# Altium integrated library TI Data Converters Analog to Digital Converter.IntLib: 2198 symbols (part 14 of 164)
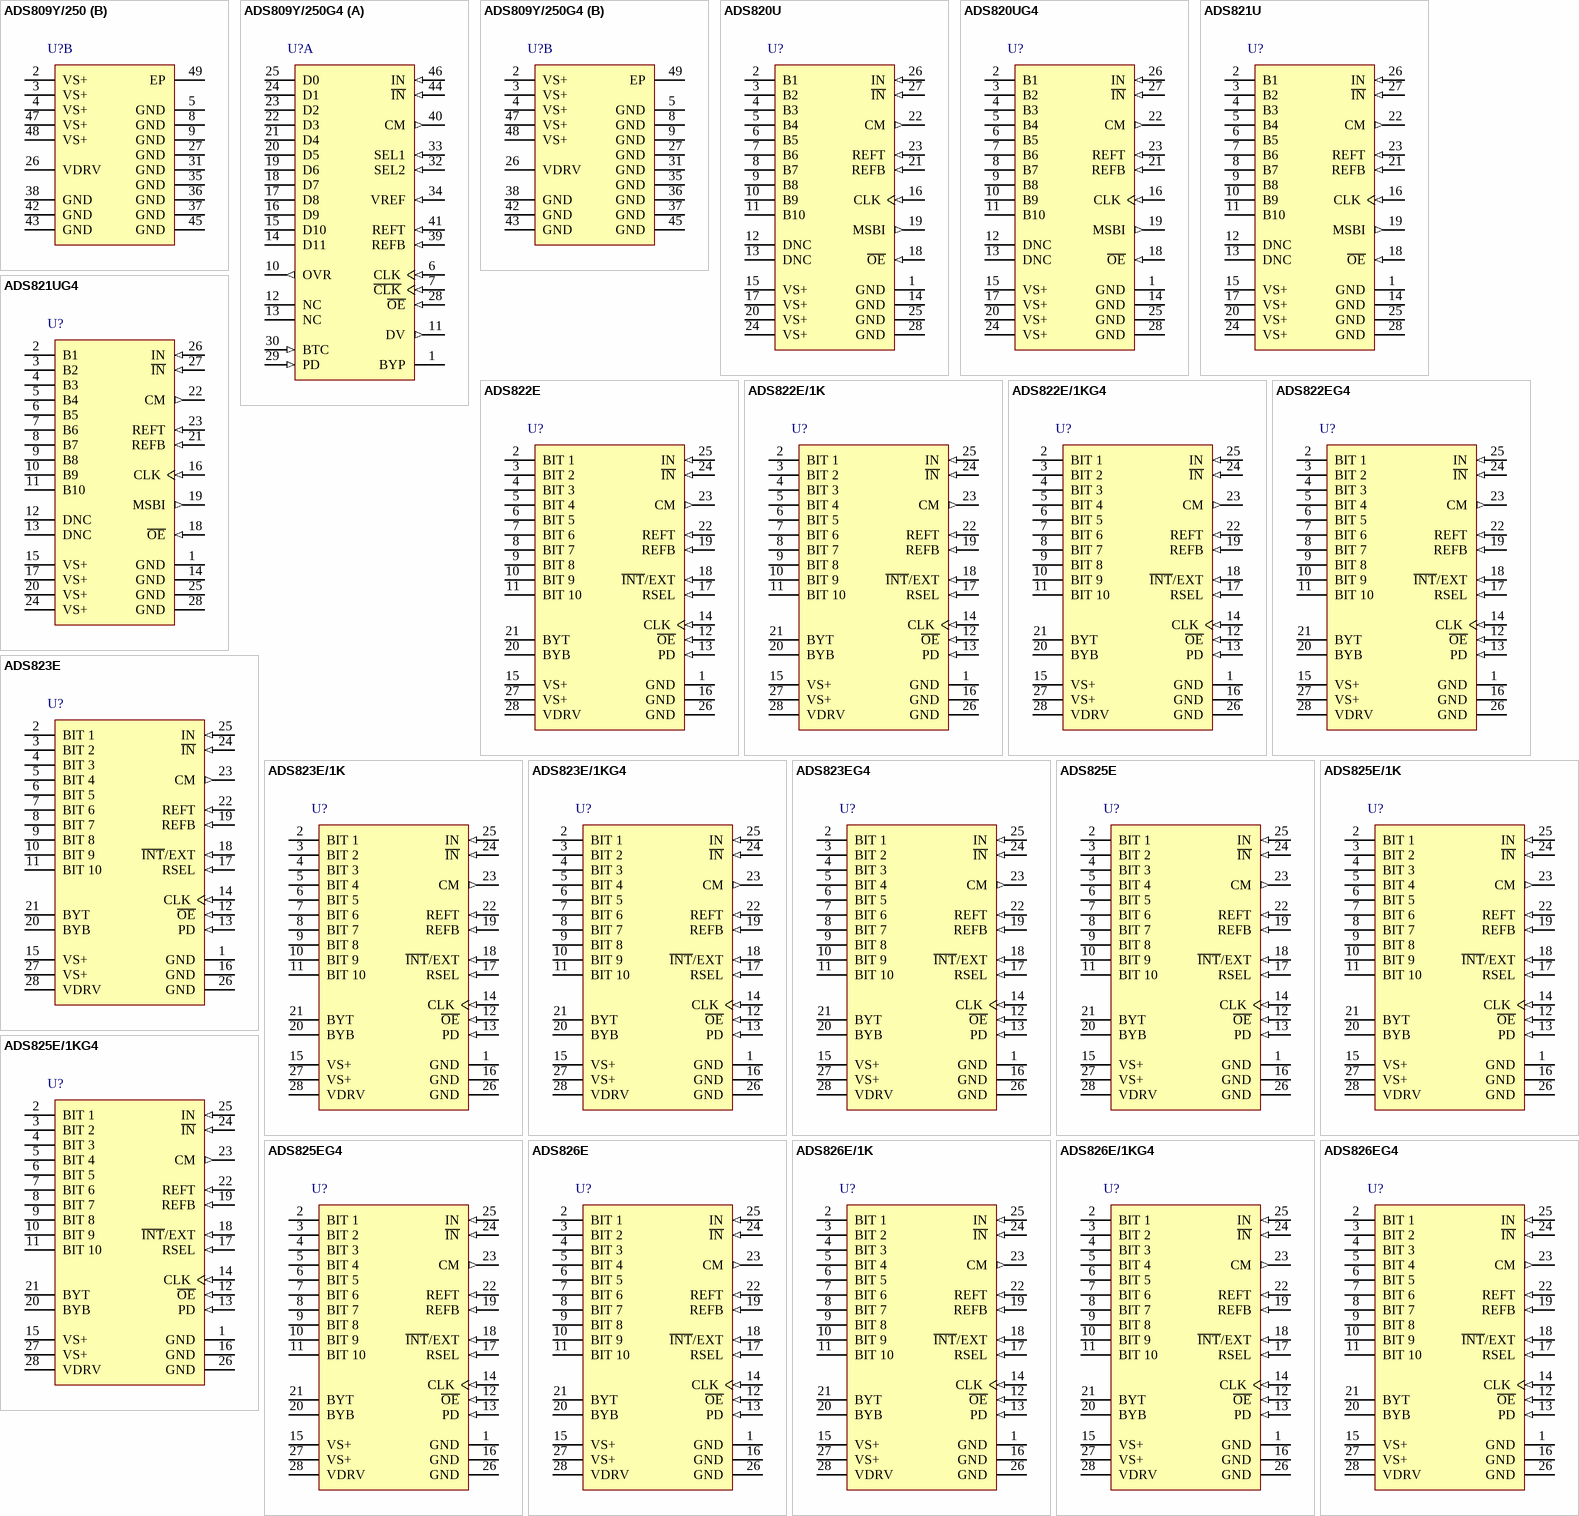
[diagram p139: symbols ADS809Y/250 to ADS826EG4]

## ADS826E/1K
designator U?
10-Bit, 60 MSPS ADC Single-Ended / Differential, Internal / External Reference, Programable Input Range with Power Down and Compatible to ADS822/3/5/8, -40 to 85 degC, 28-pin SOP (DB28), Green (RoHS & no Sb/Br); Manufacturer: Texas Instruments; PartNumber: ADS826E/1K; # Input Channels: 1; Analog Voltage AV/DD(Max)(V): 5.25; Analog Voltage AV/DD(Min)(V): 4.75; Architecture: Pipeline; Digital Supply(Max)(V): 5; Digital Supply(Min)(V): 3; ENOB(Bits): 9.5; INL(Max)(+/-LSB): 2; Interface: Parallel CMOS; Resolution(Bits): 10; Sample Rate (max)(SPS): 60M; SFDR(dB): 73; SINAD(dB): 58; SNR(dB): 59; SubFamily: High Speed ADC (>10MSPS); DatasheetVersion: SBAS070B; PackageVersion: 4040065/E, 12/2001; PackageReference: DB28; PackageDescription: 28-Pin Plastic Small Outline, Body 10.2 X 5.3 mm, Pitch 0.65 mm; Supplier 1: Digi-Key; Supplier Part Number 1: 296-2916-5-ND; Eco-Plan: Green (RoHS & no Sb/Br); Mounting Technology: Surface Mount; Code_JEDEC: MO-150; ComponentLink1Description: Manufacturer URL; ComponentLink1URL: http://www.ti.com/; ComponentLink2Description: Datasheet; ComponentLink2URL: http://www.ti.com/general/docs/lit/getliterature.tsp?genericPartNumber=ADS826&fileType=pdf; ComponentLink3Description: Package Specification; ComponentLink3URL: http://www.ti.com/lit/ml/msso002e/msso002e.pdf
footprint TI-DB28_N (SOP, 28-Leads, Body 10.2x5.3mm, Pitch 0.65mm, IPC Medium Density)
footprint TI-DB28_L (SOP, 28-Leads, Body 10.2x5.3mm, Pitch 0.65mm, IPC High Density)
footprint TI-DB28_M (SOP, 28-Leads, Body 10.2x5.3mm, Pitch 0.65mm, IPC Low Density)
pins: 1 GND (power) "Ground", 2 BIT 1 (hiz) "Data Bit 1 (D9) (MSB)", 3 BIT 2 (hiz) "Data Bit 2 (D8)", 4 BIT 3 (hiz) "Data Bit 3 (D7)", 5 BIT 4 (hiz) "Data Bit 4 (D6)", 6 BIT 5 (hiz) "Data Bit 5 (D5)", 7 BIT 6 (hiz) "Data Bit 6 (D4)", 8 BIT 7 (hiz) "Data Bit 7 (D3)", 9 BIT 8 (hiz) "Data Bit 8 (D2)", 10 BIT 9 (hiz) "Data Bit 9 (D1)", 11 BIT 10 (hiz) "Data Bit 10 (D0) (LSB)", 12 ~{OE} (in) "Output Enable. HI: High Impedance State. LO: Normal Operation (Internal Pull-Down Resistor)", 13 PD (in) "Power Down: HI = Power Down; LO = Normal", 14 CLK (in) "Convert Clock Input", 15 VS+ (power) "+5V Supply", 16 GND (power) "Ground", 17 RSEL (in) "Input Range Select: HI = 2V; LO = 1V", 18 ~{INT}/EXT (in) "Reference Select: HI = External; LO = Internal", 19 REFB (in) "Bottom Reference", 20 BYB "Bottom Ladder Bypass", 21 BYT "Top Ladder Bypass", 22 REFT (in) "Top Reference", 23 CM (out) "Common-Mode Voltage Output", 24 ~{IN} (in) "Complementary Input (-)", 25 IN (in) "Analog Input (+)", 26 GND (power) "Ground", 27 VS+ (power) "+5V Supply", 28 VDRV (power) "Output Logic Driver Supply Voltage"

## ADS826E/1KG4
designator U?
10-Bit, 60 MSPS ADC Single-Ended / Differential, Internal / External Reference, Programable Input Range with Power Down and Compatible to ADS822/3/5/8, -40 to 85 degC, 28-pin SOP (DB28), Green (RoHS & no Sb/Br); Manufacturer: Texas Instruments; PartNumber: ADS826E/1KG4; # Input Channels: 1; Analog Voltage AV/DD(Max)(V): 5.25; Analog Voltage AV/DD(Min)(V): 4.75; Architecture: Pipeline; Digital Supply(Max)(V): 5; Digital Supply(Min)(V): 3; ENOB(Bits): 9.5; INL(Max)(+/-LSB): 2; Interface: Parallel CMOS; Resolution(Bits): 10; Sample Rate (max)(SPS): 60M; SFDR(dB): 73; SINAD(dB): 58; SNR(dB): 59; SubFamily: High Speed ADC (>10MSPS); DatasheetVersion: SBAS070B; PackageVersion: 4040065/E, 12/2001; PackageReference: DB28; PackageDescription: 28-Pin Plastic Small Outline, Body 10.2 X 5.3 mm, Pitch 0.65 mm; Supplier 1: Digi-Key; Supplier Part Number 1: TLC2555IDGKG4-ND; Eco-Plan: Green (RoHS & no Sb/Br); Mounting Technology: Surface Mount; Code_JEDEC: MO-150; ComponentLink1Description: Manufacturer URL; ComponentLink1URL: http://www.ti.com/; ComponentLink2Description: Datasheet; ComponentLink2URL: http://www.ti.com/general/docs/lit/getliterature.tsp?genericPartNumber=ADS826&fileType=pdf; ComponentLink3Description: Package Specification; ComponentLink3URL: http://www.ti.com/lit/ml/msso002e/msso002e.pdf
footprint TI-DB28_N (SOP, 28-Leads, Body 10.2x5.3mm, Pitch 0.65mm, IPC Medium Density)
footprint TI-DB28_L (SOP, 28-Leads, Body 10.2x5.3mm, Pitch 0.65mm, IPC High Density)
footprint TI-DB28_M (SOP, 28-Leads, Body 10.2x5.3mm, Pitch 0.65mm, IPC Low Density)
pins: 1 GND (power) "Ground", 2 BIT 1 (hiz) "Data Bit 1 (D9) (MSB)", 3 BIT 2 (hiz) "Data Bit 2 (D8)", 4 BIT 3 (hiz) "Data Bit 3 (D7)", 5 BIT 4 (hiz) "Data Bit 4 (D6)", 6 BIT 5 (hiz) "Data Bit 5 (D5)", 7 BIT 6 (hiz) "Data Bit 6 (D4)", 8 BIT 7 (hiz) "Data Bit 7 (D3)", 9 BIT 8 (hiz) "Data Bit 8 (D2)", 10 BIT 9 (hiz) "Data Bit 9 (D1)", 11 BIT 10 (hiz) "Data Bit 10 (D0) (LSB)", 12 ~{OE} (in) "Output Enable. HI: High Impedance State. LO: Normal Operation (Internal Pull-Down Resistor)", 13 PD (in) "Power Down: HI = Power Down; LO = Normal", 14 CLK (in) "Convert Clock Input", 15 VS+ (power) "+5V Supply", 16 GND (power) "Ground", 17 RSEL (in) "Input Range Select: HI = 2V; LO = 1V", 18 ~{INT}/EXT (in) "Reference Select: HI = External; LO = Internal", 19 REFB (in) "Bottom Reference", 20 BYB "Bottom Ladder Bypass", 21 BYT "Top Ladder Bypass", 22 REFT (in) "Top Reference", 23 CM (out) "Common-Mode Voltage Output", 24 ~{IN} (in) "Complementary Input (-)", 25 IN (in) "Analog Input (+)", 26 GND (power) "Ground", 27 VS+ (power) "+5V Supply", 28 VDRV (power) "Output Logic Driver Supply Voltage"

## ADS826EG4
designator U?
10-Bit, 60 MSPS ADC Single-Ended / Differential, Internal / External Reference, Programable Input Range with Power Down and Compatible to ADS822/3/5/8, -40 to 85 degC, 28-pin SOP (DB28), Green (RoHS & no Sb/Br); Manufacturer: Texas Instruments; PartNumber: ADS826EG4; # Input Channels: 1; Analog Voltage AV/DD(Max)(V): 5.25; Analog Voltage AV/DD(Min)(V): 4.75; Architecture: Pipeline; Digital Supply(Max)(V): 5; Digital Supply(Min)(V): 3; ENOB(Bits): 9.5; INL(Max)(+/-LSB): 2; Interface: Parallel CMOS; Resolution(Bits): 10; Sample Rate (max)(SPS): 60M; SFDR(dB): 73; SINAD(dB): 58; SNR(dB): 59; SubFamily: High Speed ADC (>10MSPS); DatasheetVersion: SBAS070B; PackageVersion: 4040065/E, 12/2001; PackageReference: DB28; PackageDescription: 28-Pin Plastic Small Outline, Body 10.2 X 5.3 mm, Pitch 0.65 mm; Supplier 1: Digi-Key; Supplier Part Number 1: 296-2200-5-ND; Eco-Plan: Green (RoHS & no Sb/Br); Mounting Technology: Surface Mount; Code_JEDEC: MO-150; ComponentLink1Description: Manufacturer URL; ComponentLink1URL: http://www.ti.com/; ComponentLink2Description: Datasheet; ComponentLink2URL: http://www.ti.com/general/docs/lit/getliterature.tsp?genericPartNumber=ADS826&fileType=pdf; ComponentLink3Description: Package Specification; ComponentLink3URL: http://www.ti.com/lit/ml/msso002e/msso002e.pdf
footprint TI-DB28_N (SOP, 28-Leads, Body 10.2x5.3mm, Pitch 0.65mm, IPC Medium Density)
footprint TI-DB28_L (SOP, 28-Leads, Body 10.2x5.3mm, Pitch 0.65mm, IPC High Density)
footprint TI-DB28_M (SOP, 28-Leads, Body 10.2x5.3mm, Pitch 0.65mm, IPC Low Density)
pins: 1 GND (power) "Ground", 2 BIT 1 (hiz) "Data Bit 1 (D9) (MSB)", 3 BIT 2 (hiz) "Data Bit 2 (D8)", 4 BIT 3 (hiz) "Data Bit 3 (D7)", 5 BIT 4 (hiz) "Data Bit 4 (D6)", 6 BIT 5 (hiz) "Data Bit 5 (D5)", 7 BIT 6 (hiz) "Data Bit 6 (D4)", 8 BIT 7 (hiz) "Data Bit 7 (D3)", 9 BIT 8 (hiz) "Data Bit 8 (D2)", 10 BIT 9 (hiz) "Data Bit 9 (D1)", 11 BIT 10 (hiz) "Data Bit 10 (D0) (LSB)", 12 ~{OE} (in) "Output Enable. HI: High Impedance State. LO: Normal Operation (Internal Pull-Down Resistor)", 13 PD (in) "Power Down: HI = Power Down; LO = Normal", 14 CLK (in) "Convert Clock Input", 15 VS+ (power) "+5V Supply", 16 GND (power) "Ground", 17 RSEL (in) "Input Range Select: HI = 2V; LO = 1V", 18 ~{INT}/EXT (in) "Reference Select: HI = External; LO = Internal", 19 REFB (in) "Bottom Reference", 20 BYB "Bottom Ladder Bypass", 21 BYT "Top Ladder Bypass", 22 REFT (in) "Top Reference", 23 CM (out) "Common-Mode Voltage Output", 24 ~{IN} (in) "Complementary Input (-)", 25 IN (in) "Analog Input (+)", 26 GND (power) "Ground", 27 VS+ (power) "+5V Supply", 28 VDRV (power) "Output Logic Driver Supply Voltage"

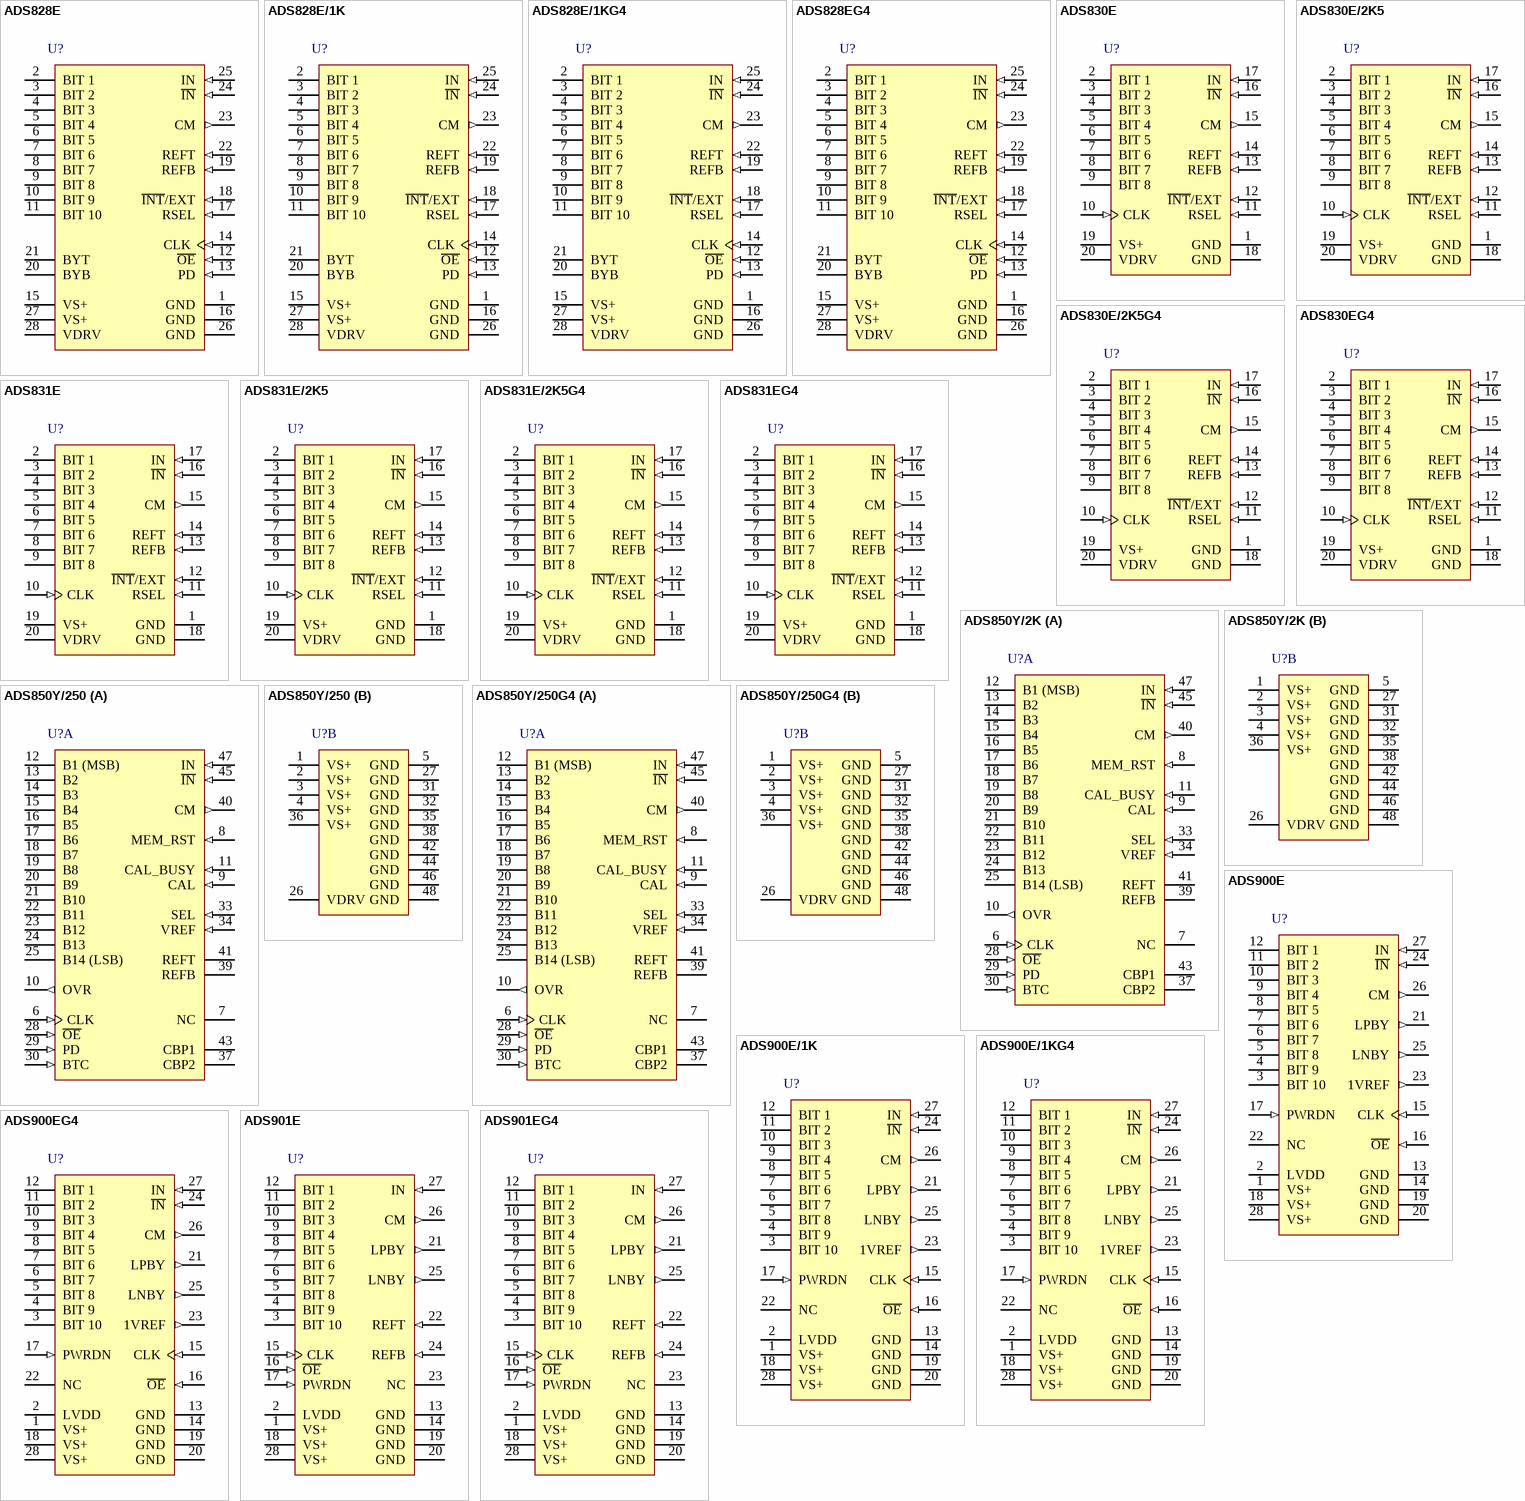
[diagram p10: symbols ADS828E to ADS901EG4]

## ADS828E
designator U?
10-Bit, 75 MSPS ADC Single-Ended / Differential, Internal / External Reference, Programable Input Range with Power Down and Compatible to ADS822/3/5/6, -40 to 85 degC, 28-pin SOP (DB28), Green (RoHS & no Sb/Br); Manufacturer: Texas Instruments; PartNumber: ADS828E; # Input Channels: 1; Analog Voltage AV/DD(Max)(V): 5.25; Analog Voltage AV/DD(Min)(V): 4.75; Architecture: Pipeline; Digital Supply(Max)(V): 5; Digital Supply(Min)(V): 3; ENOB(Bits): 9.3; Interface: Parallel CMOS; Resolution(Bits): 10; Sample Rate (max)(SPS): 75M; SFDR(dB): 68; SINAD(dB): 57; SubFamily: High Speed ADC (>10MSPS); DatasheetVersion: SBAS126A; PackageVersion: 4040065/E, 12/2001; PackageReference: DB28; PackageDescription: 28-Pin Plastic Small Outline, Body 10.2 X 5.3 mm, Pitch 0.65 mm; Supplier 1: Digi-Key; Supplier Part Number 1: TLV2542CDGKG4-ND; Eco-Plan: Green (RoHS & no Sb/Br); INL(Max)(+/-LSB): 3; SNR(dB): 57; Mounting Technology: Surface Mount; Code_JEDEC: MO-150; ComponentLink1Description: Manufacturer URL; ComponentLink1URL: http://www.ti.com/; ComponentLink2Description: Datasheet; ComponentLink2URL: http://www.ti.com/general/docs/lit/getliterature.tsp?genericPartNumber=ADS828&fileType=pdf; ComponentLink3Description: Package Specification; ComponentLink3URL: http://www.ti.com/lit/ml/msso002e/msso002e.pdf
footprint TI-DB28_N (SOP, 28-Leads, Body 10.2x5.3mm, Pitch 0.65mm, IPC Medium Density)
footprint TI-DB28_L (SOP, 28-Leads, Body 10.2x5.3mm, Pitch 0.65mm, IPC High Density)
footprint TI-DB28_M (SOP, 28-Leads, Body 10.2x5.3mm, Pitch 0.65mm, IPC Low Density)
pins: 1 GND (power) "Ground", 2 BIT 1 (hiz) "Data Bit 1 (D9) (MSB)", 3 BIT 2 (hiz) "Data Bit 2 (D8)", 4 BIT 3 (hiz) "Data Bit 3 (D7)", 5 BIT 4 (hiz) "Data Bit 4 (D6)", 6 BIT 5 (hiz) "Data Bit 5 (D5)", 7 BIT 6 (hiz) "Data Bit 6 (D4)", 8 BIT 7 (hiz) "Data Bit 7 (D3)", 9 BIT 8 (hiz) "Data Bit 8 (D2)", 10 BIT 9 (hiz) "Data Bit 9 (D1)", 11 BIT 10 (hiz) "Data Bit 10 (D0) (LSB)", 12 ~{OE} (in) "Output Enable. HI: High Impedance State. LO: Normal Operation (Internal Pull-Down Resistor)", 13 PD (in) "Power Down: HI = Power Down; LO = Normal", 14 CLK (in) "Convert Clock Input", 15 VS+ (power) "+5V Supply", 16 GND (power) "Ground", 17 RSEL (in) "Input Range Select: HI = 2V; LO = 1V", 18 ~{INT}/EXT (in) "Reference Select: HI = External; LO = Internal", 19 REFB (in) "Bottom Reference", 20 BYB "Bottom Ladder Bypass", 21 BYT "Top Ladder Bypass", 22 REFT (in) "Top Reference", 23 CM (out) "Common-Mode Voltage Output", 24 ~{IN} (in) "Complementary Input (-)", 25 IN (in) "Analog Input (+)", 26 GND (power) "Ground", 27 VS+ (power) "+5V Supply", 28 VDRV (power) "Output Logic Driver Supply Voltage"

## ADS828E/1K
designator U?
10-Bit, 75 MSPS ADC Single-Ended / Differential, Internal / External Reference, Programable Input Range with Power Down and Compatible to ADS822/3/5/6, -40 to 85 degC, 28-pin SOP (DB28), Green (RoHS & no Sb/Br); Manufacturer: Texas Instruments; PartNumber: ADS828E/1K; # Input Channels: 1; Analog Voltage AV/DD(Max)(V): 5.25; Analog Voltage AV/DD(Min)(V): 4.75; Architecture: Pipeline; Digital Supply(Max)(V): 5; Digital Supply(Min)(V): 3; ENOB(Bits): 9.3; Interface: Parallel CMOS; Resolution(Bits): 10; Sample Rate (max)(SPS): 75M; SFDR(dB): 68; SINAD(dB): 57; SubFamily: High Speed ADC (>10MSPS); DatasheetVersion: SBAS126A; PackageVersion: 4040065/E, 12/2001; PackageReference: DB28; PackageDescription: 28-Pin Plastic Small Outline, Body 10.2 X 5.3 mm, Pitch 0.65 mm; Supplier 1: Digi-Key; Supplier Part Number 1: TLV2542CDGKR-ND; Eco-Plan: Green (RoHS & no Sb/Br); INL(Max)(+/-LSB): 3; SNR(dB): 57; Mounting Technology: Surface Mount; Code_JEDEC: MO-150; ComponentLink1Description: Manufacturer URL; ComponentLink1URL: http://www.ti.com/; ComponentLink2Description: Datasheet; ComponentLink2URL: http://www.ti.com/general/docs/lit/getliterature.tsp?genericPartNumber=ADS828&fileType=pdf; ComponentLink3Description: Package Specification; ComponentLink3URL: http://www.ti.com/lit/ml/msso002e/msso002e.pdf
footprint TI-DB28_N (SOP, 28-Leads, Body 10.2x5.3mm, Pitch 0.65mm, IPC Medium Density)
footprint TI-DB28_L (SOP, 28-Leads, Body 10.2x5.3mm, Pitch 0.65mm, IPC High Density)
footprint TI-DB28_M (SOP, 28-Leads, Body 10.2x5.3mm, Pitch 0.65mm, IPC Low Density)
pins: 1 GND (power) "Ground", 2 BIT 1 (hiz) "Data Bit 1 (D9) (MSB)", 3 BIT 2 (hiz) "Data Bit 2 (D8)", 4 BIT 3 (hiz) "Data Bit 3 (D7)", 5 BIT 4 (hiz) "Data Bit 4 (D6)", 6 BIT 5 (hiz) "Data Bit 5 (D5)", 7 BIT 6 (hiz) "Data Bit 6 (D4)", 8 BIT 7 (hiz) "Data Bit 7 (D3)", 9 BIT 8 (hiz) "Data Bit 8 (D2)", 10 BIT 9 (hiz) "Data Bit 9 (D1)", 11 BIT 10 (hiz) "Data Bit 10 (D0) (LSB)", 12 ~{OE} (in) "Output Enable. HI: High Impedance State. LO: Normal Operation (Internal Pull-Down Resistor)", 13 PD (in) "Power Down: HI = Power Down; LO = Normal", 14 CLK (in) "Convert Clock Input", 15 VS+ (power) "+5V Supply", 16 GND (power) "Ground", 17 RSEL (in) "Input Range Select: HI = 2V; LO = 1V", 18 ~{INT}/EXT (in) "Reference Select: HI = External; LO = Internal", 19 REFB (in) "Bottom Reference", 20 BYB "Bottom Ladder Bypass", 21 BYT "Top Ladder Bypass", 22 REFT (in) "Top Reference", 23 CM (out) "Common-Mode Voltage Output", 24 ~{IN} (in) "Complementary Input (-)", 25 IN (in) "Analog Input (+)", 26 GND (power) "Ground", 27 VS+ (power) "+5V Supply", 28 VDRV (power) "Output Logic Driver Supply Voltage"

## ADS828E/1KG4
designator U?
10-Bit, 75 MSPS ADC Single-Ended / Differential, Internal / External Reference, Programable Input Range with Power Down and Compatible to ADS822/3/5/6, -40 to 85 degC, 28-pin SOP (DB28), Green (RoHS & no Sb/Br); Manufacturer: Texas Instruments; PartNumber: ADS828E/1KG4; # Input Channels: 1; Analog Voltage AV/DD(Max)(V): 5.25; Analog Voltage AV/DD(Min)(V): 4.75; Architecture: Pipeline; Digital Supply(Max)(V): 5; Digital Supply(Min)(V): 3; ENOB(Bits): 9.3; Interface: Parallel CMOS; Resolution(Bits): 10; Sample Rate (max)(SPS): 75M; SFDR(dB): 68; SINAD(dB): 57; SubFamily: High Speed ADC (>10MSPS); DatasheetVersion: SBAS126A; PackageVersion: 4040065/E, 12/2001; PackageReference: DB28; PackageDescription: 28-Pin Plastic Small Outline, Body 10.2 X 5.3 mm, Pitch 0.65 mm; Supplier 1: Digi-Key; Supplier Part Number 1: TLV2542CDGKRG4-ND; Eco-Plan: Green (RoHS & no Sb/Br); INL(Max)(+/-LSB): 3; SNR(dB): 57; Mounting Technology: Surface Mount; Code_JEDEC: MO-150; ComponentLink1Description: Manufacturer URL; ComponentLink1URL: http://www.ti.com/; ComponentLink2Description: Datasheet; ComponentLink2URL: http://www.ti.com/general/docs/lit/getliterature.tsp?genericPartNumber=ADS828&fileType=pdf; ComponentLink3Description: Package Specification; ComponentLink3URL: http://www.ti.com/lit/ml/msso002e/msso002e.pdf
footprint TI-DB28_N (SOP, 28-Leads, Body 10.2x5.3mm, Pitch 0.65mm, IPC Medium Density)
footprint TI-DB28_L (SOP, 28-Leads, Body 10.2x5.3mm, Pitch 0.65mm, IPC High Density)
footprint TI-DB28_M (SOP, 28-Leads, Body 10.2x5.3mm, Pitch 0.65mm, IPC Low Density)
pins: 1 GND (power) "Ground", 2 BIT 1 (hiz) "Data Bit 1 (D9) (MSB)", 3 BIT 2 (hiz) "Data Bit 2 (D8)", 4 BIT 3 (hiz) "Data Bit 3 (D7)", 5 BIT 4 (hiz) "Data Bit 4 (D6)", 6 BIT 5 (hiz) "Data Bit 5 (D5)", 7 BIT 6 (hiz) "Data Bit 6 (D4)", 8 BIT 7 (hiz) "Data Bit 7 (D3)", 9 BIT 8 (hiz) "Data Bit 8 (D2)", 10 BIT 9 (hiz) "Data Bit 9 (D1)", 11 BIT 10 (hiz) "Data Bit 10 (D0) (LSB)", 12 ~{OE} (in) "Output Enable. HI: High Impedance State. LO: Normal Operation (Internal Pull-Down Resistor)", 13 PD (in) "Power Down: HI = Power Down; LO = Normal", 14 CLK (in) "Convert Clock Input", 15 VS+ (power) "+5V Supply", 16 GND (power) "Ground", 17 RSEL (in) "Input Range Select: HI = 2V; LO = 1V", 18 ~{INT}/EXT (in) "Reference Select: HI = External; LO = Internal", 19 REFB (in) "Bottom Reference", 20 BYB "Bottom Ladder Bypass", 21 BYT "Top Ladder Bypass", 22 REFT (in) "Top Reference", 23 CM (out) "Common-Mode Voltage Output", 24 ~{IN} (in) "Complementary Input (-)", 25 IN (in) "Analog Input (+)", 26 GND (power) "Ground", 27 VS+ (power) "+5V Supply", 28 VDRV (power) "Output Logic Driver Supply Voltage"

## ADS828EG4
designator U?
10-Bit, 75 MSPS ADC Single-Ended / Differential, Internal / External Reference, Programable Input Range with Power Down and Compatible to ADS822/3/5/6, -40 to 85 degC, 28-pin SOP (DB28), Green (RoHS & no Sb/Br); Manufacturer: Texas Instruments; PartNumber: ADS828EG4; # Input Channels: 1; Analog Voltage AV/DD(Max)(V): 5.25; Analog Voltage AV/DD(Min)(V): 4.75; Architecture: Pipeline; Digital Supply(Max)(V): 5; Digital Supply(Min)(V): 3; ENOB(Bits): 9.3; Interface: Parallel CMOS; Resolution(Bits): 10; Sample Rate (max)(SPS): 75M; SFDR(dB): 68; SINAD(dB): 57; SubFamily: High Speed ADC (>10MSPS); DatasheetVersion: SBAS126A; PackageVersion: 4040065/E, 12/2001; PackageReference: DB28; PackageDescription: 28-Pin Plastic Small Outline, Body 10.2 X 5.3 mm, Pitch 0.65 mm; Supplier 1: Digi-Key; Supplier Part Number 1: 296-2975-5-ND; Eco-Plan: Green (RoHS & no Sb/Br); INL(Max)(+/-LSB): 3; SNR(dB): 57; Mounting Technology: Surface Mount; Code_JEDEC: MO-150; ComponentLink1Description: Manufacturer URL; ComponentLink1URL: http://www.ti.com/; ComponentLink2Description: Datasheet; ComponentLink2URL: http://www.ti.com/general/docs/lit/getliterature.tsp?genericPartNumber=ADS828&fileType=pdf; ComponentLink3Description: Package Specification; ComponentLink3URL: http://www.ti.com/lit/ml/msso002e/msso002e.pdf
footprint TI-DB28_N (SOP, 28-Leads, Body 10.2x5.3mm, Pitch 0.65mm, IPC Medium Density)
footprint TI-DB28_L (SOP, 28-Leads, Body 10.2x5.3mm, Pitch 0.65mm, IPC High Density)
footprint TI-DB28_M (SOP, 28-Leads, Body 10.2x5.3mm, Pitch 0.65mm, IPC Low Density)
pins: 1 GND (power) "Ground", 2 BIT 1 (hiz) "Data Bit 1 (D9) (MSB)", 3 BIT 2 (hiz) "Data Bit 2 (D8)", 4 BIT 3 (hiz) "Data Bit 3 (D7)", 5 BIT 4 (hiz) "Data Bit 4 (D6)", 6 BIT 5 (hiz) "Data Bit 5 (D5)", 7 BIT 6 (hiz) "Data Bit 6 (D4)", 8 BIT 7 (hiz) "Data Bit 7 (D3)", 9 BIT 8 (hiz) "Data Bit 8 (D2)", 10 BIT 9 (hiz) "Data Bit 9 (D1)", 11 BIT 10 (hiz) "Data Bit 10 (D0) (LSB)", 12 ~{OE} (in) "Output Enable. HI: High Impedance State. LO: Normal Operation (Internal Pull-Down Resistor)", 13 PD (in) "Power Down: HI = Power Down; LO = Normal", 14 CLK (in) "Convert Clock Input", 15 VS+ (power) "+5V Supply", 16 GND (power) "Ground", 17 RSEL (in) "Input Range Select: HI = 2V; LO = 1V", 18 ~{INT}/EXT (in) "Reference Select: HI = External; LO = Internal", 19 REFB (in) "Bottom Reference", 20 BYB "Bottom Ladder Bypass", 21 BYT "Top Ladder Bypass", 22 REFT (in) "Top Reference", 23 CM (out) "Common-Mode Voltage Output", 24 ~{IN} (in) "Complementary Input (-)", 25 IN (in) "Analog Input (+)", 26 GND (power) "Ground", 27 VS+ (power) "+5V Supply", 28 VDRV (power) "Output Logic Driver Supply Voltage"

## ADS830E
designator U?
8-Bit, 60 MSPS ADC Single-Ended / Differential Input, Internal / External Reference and Programmble Input Range, -40 to 85 degC, 20-pin SOP (DBQ20), Green (RoHS & no Sb/Br); Manufacturer: Texas Instruments; PartNumber: ADS830E; # Input Channels: 1; Analog Voltage AV/DD(Max)(V): 5.25; Analog Voltage AV/DD(Min)(V): 4.75; Architecture: Pipeline; Digital Supply(Max)(V): 5; Digital Supply(Min)(V): 3; ENOB(Bits): 7.7; INL(Max)(+/-LSB): 1.5; Interface: Parallel CMOS; Resolution(Bits): 8; Sample Rate (max)(SPS): 60M; SFDR(dB): 67; SINAD(dB): 48; SNR(dB): 49.5; SubFamily: High Speed ADC (>10MSPS); DatasheetVersion: SBAS086A; PackageVersion: 4073301-3/H, 10/2008; PackageReference: DBQ20; PackageDescription: 20-Pin Plastic Small Outline, Body 8.65 x 3.9 mm, Pitch 0.635 mm; Supplier 1: Digi-Key; Supplier Part Number 1: TLV2542IDGKG4-ND; Eco-Plan: Green (RoHS & no Sb/Br); Mounting Technology: Surface Mount; Code_JEDEC: MO-137; ComponentLink1Description: Manufacturer URL; ComponentLink1URL: http://www.ti.com/; ComponentLink2Description: Datasheet; ComponentLink2URL: http://www.ti.com/general/docs/lit/getliterature.tsp?genericPartNumber=ADS830&fileType=pdf; ComponentLink3Description: Package Specification; ComponentLink3URL: http://www.ti.com/litv/pdf/mpds210a
footprint TI-DBQ20_N (SOP, 20-Leads, Body 8.65x3.9mm, Pitch 0.635mm, IPC Medium Density)
footprint TI-DBQ20_L (SOP, 20-Leads, Body 8.65x3.9mm, Pitch 0.635mm, IPC High Density)
footprint TI-DBQ20_M (SOP, 20-Leads, Body 8.65x3.9mm, Pitch 0.635mm, IPC Low Density)
pins: 1 GND (power) "Ground", 2 BIT 1 (hiz) "Data Bit 1 (D7) (MSB)", 3 BIT 2 (hiz) "Data Bit 2 (D6)", 4 BIT 3 (hiz) "Data Bit 3 (D5)", 5 BIT 4 (hiz) "Data Bit 4 (D4)", 6 BIT 5 (hiz) "Data Bit 5 (D3)", 7 BIT 6 (hiz) "Data Bit 6 (D2)", 8 BIT 7 (hiz) "Data Bit 7 (D1)", 9 BIT 8 (hiz) "Data Bit 8 (D0) (LSB)", 10 CLK (in) "Convert Clock", 11 RSEL (in) "Input Range Select: HI = 2V; LO = 1V", 12 ~{INT}/EXT (in) "Reference Select: HI = External; LO = Internal", 13 REFB (in) "Bottom Reference", 14 REFT (in) "Top Reference", 15 CM (out) "Common-Mode Voltage Output", 16 ~{IN} (in) "Complementary Input", 17 IN (in) "Analog Input", 18 GND (power) "Ground", 19 VS+ (power) "+5V Supply", 20 VDRV (power) "Output Logic Driver Supply Voltage"

## ADS830E/2K5
designator U?
8-Bit, 60 MSPS ADC Single-Ended / Differential Input, Internal / External Reference and Programmble Input Range, -40 to 85 degC, 20-pin SOP (DBQ20), Green (RoHS & no Sb/Br); Manufacturer: Texas Instruments; PartNumber: ADS830E/2K5; # Input Channels: 1; Analog Voltage AV/DD(Max)(V): 5.25; Analog Voltage AV/DD(Min)(V): 4.75; Architecture: Pipeline; Digital Supply(Max)(V): 5; Digital Supply(Min)(V): 3; ENOB(Bits): 7.7; INL(Max)(+/-LSB): 1.5; Interface: Parallel CMOS; Resolution(Bits): 8; Sample Rate (max)(SPS): 60M; SFDR(dB): 67; SINAD(dB): 48; SNR(dB): 49.5; SubFamily: High Speed ADC (>10MSPS); DatasheetVersion: SBAS086A; PackageVersion: 4073301-3/H, 10/2008; PackageReference: DBQ20; PackageDescription: 20-Pin Plastic Small Outline, Body 8.65 x 3.9 mm, Pitch 0.635 mm; Supplier 1: Digi-Key; Supplier Part Number 1: TLV2542IDGKR-ND; Eco-Plan: Green (RoHS & no Sb/Br); Mounting Technology: Surface Mount; Code_JEDEC: MO-137; ComponentLink1Description: Manufacturer URL; ComponentLink1URL: http://www.ti.com/; ComponentLink2Description: Datasheet; ComponentLink2URL: http://www.ti.com/general/docs/lit/getliterature.tsp?genericPartNumber=ADS830&fileType=pdf; ComponentLink3Description: Package Specification; ComponentLink3URL: http://www.ti.com/litv/pdf/mpds210a
footprint TI-DBQ20_N (SOP, 20-Leads, Body 8.65x3.9mm, Pitch 0.635mm, IPC Medium Density)
footprint TI-DBQ20_L (SOP, 20-Leads, Body 8.65x3.9mm, Pitch 0.635mm, IPC High Density)
footprint TI-DBQ20_M (SOP, 20-Leads, Body 8.65x3.9mm, Pitch 0.635mm, IPC Low Density)
pins: 1 GND (power) "Ground", 2 BIT 1 (hiz) "Data Bit 1 (D7) (MSB)", 3 BIT 2 (hiz) "Data Bit 2 (D6)", 4 BIT 3 (hiz) "Data Bit 3 (D5)", 5 BIT 4 (hiz) "Data Bit 4 (D4)", 6 BIT 5 (hiz) "Data Bit 5 (D3)", 7 BIT 6 (hiz) "Data Bit 6 (D2)", 8 BIT 7 (hiz) "Data Bit 7 (D1)", 9 BIT 8 (hiz) "Data Bit 8 (D0) (LSB)", 10 CLK (in) "Convert Clock", 11 RSEL (in) "Input Range Select: HI = 2V; LO = 1V", 12 ~{INT}/EXT (in) "Reference Select: HI = External; LO = Internal", 13 REFB (in) "Bottom Reference", 14 REFT (in) "Top Reference", 15 CM (out) "Common-Mode Voltage Output", 16 ~{IN} (in) "Complementary Input", 17 IN (in) "Analog Input", 18 GND (power) "Ground", 19 VS+ (power) "+5V Supply", 20 VDRV (power) "Output Logic Driver Supply Voltage"

## ADS830E/2K5G4
designator U?
8-Bit, 60 MSPS ADC Single-Ended / Differential Input, Internal / External Reference and Programmble Input Range, -40 to 85 degC, 20-pin SOP (DBQ20), Green (RoHS & no Sb/Br); Manufacturer: Texas Instruments; PartNumber: ADS830E/2K5G4; # Input Channels: 1; Analog Voltage AV/DD(Max)(V): 5.25; Analog Voltage AV/DD(Min)(V): 4.75; Architecture: Pipeline; Digital Supply(Max)(V): 5; Digital Supply(Min)(V): 3; ENOB(Bits): 7.7; INL(Max)(+/-LSB): 1.5; Interface: Parallel CMOS; Resolution(Bits): 8; Sample Rate (max)(SPS): 60M; SFDR(dB): 67; SINAD(dB): 48; SNR(dB): 49.5; SubFamily: High Speed ADC (>10MSPS); DatasheetVersion: SBAS086A; PackageVersion: 4073301-3/H, 10/2008; PackageReference: DBQ20; PackageDescription: 20-Pin Plastic Small Outline, Body 8.65 x 3.9 mm, Pitch 0.635 mm; Supplier 1: Digi-Key; Supplier Part Number 1: TLV2542IDGKRG4-ND; Eco-Plan: Green (RoHS & no Sb/Br); Mounting Technology: Surface Mount; Code_JEDEC: MO-137; ComponentLink1Description: Manufacturer URL; ComponentLink1URL: http://www.ti.com/; ComponentLink2Description: Datasheet; ComponentLink2URL: http://www.ti.com/general/docs/lit/getliterature.tsp?genericPartNumber=ADS830&fileType=pdf; ComponentLink3Description: Package Specification; ComponentLink3URL: http://www.ti.com/litv/pdf/mpds210a
footprint TI-DBQ20_N (SOP, 20-Leads, Body 8.65x3.9mm, Pitch 0.635mm, IPC Medium Density)
footprint TI-DBQ20_L (SOP, 20-Leads, Body 8.65x3.9mm, Pitch 0.635mm, IPC High Density)
footprint TI-DBQ20_M (SOP, 20-Leads, Body 8.65x3.9mm, Pitch 0.635mm, IPC Low Density)
pins: 1 GND (power) "Ground", 2 BIT 1 (hiz) "Data Bit 1 (D7) (MSB)", 3 BIT 2 (hiz) "Data Bit 2 (D6)", 4 BIT 3 (hiz) "Data Bit 3 (D5)", 5 BIT 4 (hiz) "Data Bit 4 (D4)", 6 BIT 5 (hiz) "Data Bit 5 (D3)", 7 BIT 6 (hiz) "Data Bit 6 (D2)", 8 BIT 7 (hiz) "Data Bit 7 (D1)", 9 BIT 8 (hiz) "Data Bit 8 (D0) (LSB)", 10 CLK (in) "Convert Clock", 11 RSEL (in) "Input Range Select: HI = 2V; LO = 1V", 12 ~{INT}/EXT (in) "Reference Select: HI = External; LO = Internal", 13 REFB (in) "Bottom Reference", 14 REFT (in) "Top Reference", 15 CM (out) "Common-Mode Voltage Output", 16 ~{IN} (in) "Complementary Input", 17 IN (in) "Analog Input", 18 GND (power) "Ground", 19 VS+ (power) "+5V Supply", 20 VDRV (power) "Output Logic Driver Supply Voltage"

## ADS830EG4
designator U?
8-Bit, 60 MSPS ADC Single-Ended / Differential Input, Internal / External Reference and Programmble Input Range, -40 to 85 degC, 20-pin SOP (DBQ20), Green (RoHS & no Sb/Br); Manufacturer: Texas Instruments; PartNumber: ADS830EG4; # Input Channels: 1; Analog Voltage AV/DD(Max)(V): 5.25; Analog Voltage AV/DD(Min)(V): 4.75; Architecture: Pipeline; Digital Supply(Max)(V): 5; Digital Supply(Min)(V): 3; ENOB(Bits): 7.7; INL(Max)(+/-LSB): 1.5; Interface: Parallel CMOS; Resolution(Bits): 8; Sample Rate (max)(SPS): 60M; SFDR(dB): 67; SINAD(dB): 48; SNR(dB): 49.5; SubFamily: High Speed ADC (>10MSPS); DatasheetVersion: SBAS086A; PackageVersion: 4073301-3/H, 10/2008; PackageReference: DBQ20; PackageDescription: 20-Pin Plastic Small Outline, Body 8.65 x 3.9 mm, Pitch 0.635 mm; Supplier 1: Digi-Key; Supplier Part Number 1: 296-2199-5-ND; Eco-Plan: Green (RoHS & no Sb/Br); Mounting Technology: Surface Mount; Code_JEDEC: MO-137; ComponentLink1Description: Manufacturer URL; ComponentLink1URL: http://www.ti.com/; ComponentLink2Description: Datasheet; ComponentLink2URL: http://www.ti.com/general/docs/lit/getliterature.tsp?genericPartNumber=ADS830&fileType=pdf; ComponentLink3Description: Package Specification; ComponentLink3URL: http://www.ti.com/litv/pdf/mpds210a
footprint TI-DBQ20_N (SOP, 20-Leads, Body 8.65x3.9mm, Pitch 0.635mm, IPC Medium Density)
footprint TI-DBQ20_L (SOP, 20-Leads, Body 8.65x3.9mm, Pitch 0.635mm, IPC High Density)
footprint TI-DBQ20_M (SOP, 20-Leads, Body 8.65x3.9mm, Pitch 0.635mm, IPC Low Density)
pins: 1 GND (power) "Ground", 2 BIT 1 (hiz) "Data Bit 1 (D7) (MSB)", 3 BIT 2 (hiz) "Data Bit 2 (D6)", 4 BIT 3 (hiz) "Data Bit 3 (D5)", 5 BIT 4 (hiz) "Data Bit 4 (D4)", 6 BIT 5 (hiz) "Data Bit 5 (D3)", 7 BIT 6 (hiz) "Data Bit 6 (D2)", 8 BIT 7 (hiz) "Data Bit 7 (D1)", 9 BIT 8 (hiz) "Data Bit 8 (D0) (LSB)", 10 CLK (in) "Convert Clock", 11 RSEL (in) "Input Range Select: HI = 2V; LO = 1V", 12 ~{INT}/EXT (in) "Reference Select: HI = External; LO = Internal", 13 REFB (in) "Bottom Reference", 14 REFT (in) "Top Reference", 15 CM (out) "Common-Mode Voltage Output", 16 ~{IN} (in) "Complementary Input", 17 IN (in) "Analog Input", 18 GND (power) "Ground", 19 VS+ (power) "+5V Supply", 20 VDRV (power) "Output Logic Driver Supply Voltage"

## ADS831E
designator U?
8-Bit, 80 MSPS ADC Single-Ended / Differential Input, Internal / External Reference and Programmble Input Range, -40 to 85 degC, 20-pin SOP (DBQ20), Green (RoHS & no Sb/Br); Manufacturer: Texas Instruments; PartNumber: ADS831E; # Input Channels: 1; Analog Voltage AV/DD(Max)(V): 5.25; Analog Voltage AV/DD(Min)(V): 4.75; Architecture: Pipeline; Digital Supply(Max)(V): 5; Digital Supply(Min)(V): 3; ENOB(Bits): 7.8; INL(Max)(+/-LSB): 2; Interface: Parallel CMOS; Resolution(Bits): 8; Sample Rate (max)(SPS): 80M; SFDR(dB): 67; SINAD(dB): 48.5; SNR(dB): 49; SubFamily: High Speed ADC (>10MSPS); DatasheetVersion: SBAS087A; PackageVersion: 4073301-3/H, 10/2008; PackageReference: DBQ20; PackageDescription: 20-Pin Plastic Small Outline, Body 8.65 x 3.9 mm, Pitch 0.635 mm; Supplier 1: Digi-Key; Supplier Part Number 1: TLV2541CDGKG4-ND; Eco-Plan: Green (RoHS & no Sb/Br); Mounting Technology: Surface Mount; Code_JEDEC: MO-137; ComponentLink1Description: Manufacturer URL; ComponentLink1URL: http://www.ti.com/; ComponentLink2Description: Datasheet; ComponentLink2URL: http://www.ti.com/general/docs/lit/getliterature.tsp?genericPartNumber=ADS831&fileType=pdf; ComponentLink3Description: Package Specification; ComponentLink3URL: http://www.ti.com/litv/pdf/mpds210a
footprint TI-DBQ20_N (SOP, 20-Leads, Body 8.65x3.9mm, Pitch 0.635mm, IPC Medium Density)
footprint TI-DBQ20_L (SOP, 20-Leads, Body 8.65x3.9mm, Pitch 0.635mm, IPC High Density)
footprint TI-DBQ20_M (SOP, 20-Leads, Body 8.65x3.9mm, Pitch 0.635mm, IPC Low Density)
pins: 1 GND (power) "Ground", 2 BIT 1 (hiz) "Data Bit 1 (D7) (MSB)", 3 BIT 2 (hiz) "Data Bit 2 (D6)", 4 BIT 3 (hiz) "Data Bit 3 (D5)", 5 BIT 4 (hiz) "Data Bit 4 (D4)", 6 BIT 5 (hiz) "Data Bit 5 (D3)", 7 BIT 6 (hiz) "Data Bit 6 (D2)", 8 BIT 7 (hiz) "Data Bit 7 (D1)", 9 BIT 8 (hiz) "Data Bit 8 (D0) (LSB)", 10 CLK (in) "Convert Clock", 11 RSEL (in) "Input Range Select: HI = 2V; LO = 1V", 12 ~{INT}/EXT (in) "Reference Select: HI = External; LO = Internal", 13 REFB (in) "Bottom Reference", 14 REFT (in) "Top Reference", 15 CM (out) "Common-Mode Voltage Output", 16 ~{IN} (in) "Complementary Input", 17 IN (in) "Analog Input", 18 GND (power) "Ground", 19 VS+ (power) "+5V Supply", 20 VDRV (power) "Output Logic Driver Supply Voltage"

## ADS831E/2K5
designator U?
8-Bit, 80 MSPS ADC Single-Ended / Differential Input, Internal / External Reference and Programmble Input Range, -40 to 85 degC, 20-pin SOP (DBQ20), Green (RoHS & no Sb/Br); Manufacturer: Texas Instruments; PartNumber: ADS831E/2K5; # Input Channels: 1; Analog Voltage AV/DD(Max)(V): 5.25; Analog Voltage AV/DD(Min)(V): 4.75; Architecture: Pipeline; Digital Supply(Max)(V): 5; Digital Supply(Min)(V): 3; ENOB(Bits): 7.8; INL(Max)(+/-LSB): 2; Interface: Parallel CMOS; Resolution(Bits): 8; Sample Rate (max)(SPS): 80M; SFDR(dB): 67; SINAD(dB): 48.5; SNR(dB): 49; SubFamily: High Speed ADC (>10MSPS); DatasheetVersion: SBAS087A; PackageVersion: 4073301-3/H, 10/2008; PackageReference: DBQ20; PackageDescription: 20-Pin Plastic Small Outline, Body 8.65 x 3.9 mm, Pitch 0.635 mm; Supplier 1: Digi-Key; Supplier Part Number 1: TLV2541CDGKR-ND; Eco-Plan: Green (RoHS & no Sb/Br); Mounting Technology: Surface Mount; Code_JEDEC: MO-137; ComponentLink1Description: Manufacturer URL; ComponentLink1URL: http://www.ti.com/; ComponentLink2Description: Datasheet; ComponentLink2URL: http://www.ti.com/general/docs/lit/getliterature.tsp?genericPartNumber=ADS831&fileType=pdf; ComponentLink3Description: Package Specification; ComponentLink3URL: http://www.ti.com/litv/pdf/mpds210a
footprint TI-DBQ20_N (SOP, 20-Leads, Body 8.65x3.9mm, Pitch 0.635mm, IPC Medium Density)
footprint TI-DBQ20_L (SOP, 20-Leads, Body 8.65x3.9mm, Pitch 0.635mm, IPC High Density)
footprint TI-DBQ20_M (SOP, 20-Leads, Body 8.65x3.9mm, Pitch 0.635mm, IPC Low Density)
pins: 1 GND (power) "Ground", 2 BIT 1 (hiz) "Data Bit 1 (D7) (MSB)", 3 BIT 2 (hiz) "Data Bit 2 (D6)", 4 BIT 3 (hiz) "Data Bit 3 (D5)", 5 BIT 4 (hiz) "Data Bit 4 (D4)", 6 BIT 5 (hiz) "Data Bit 5 (D3)", 7 BIT 6 (hiz) "Data Bit 6 (D2)", 8 BIT 7 (hiz) "Data Bit 7 (D1)", 9 BIT 8 (hiz) "Data Bit 8 (D0) (LSB)", 10 CLK (in) "Convert Clock", 11 RSEL (in) "Input Range Select: HI = 2V; LO = 1V", 12 ~{INT}/EXT (in) "Reference Select: HI = External; LO = Internal", 13 REFB (in) "Bottom Reference", 14 REFT (in) "Top Reference", 15 CM (out) "Common-Mode Voltage Output", 16 ~{IN} (in) "Complementary Input", 17 IN (in) "Analog Input", 18 GND (power) "Ground", 19 VS+ (power) "+5V Supply", 20 VDRV (power) "Output Logic Driver Supply Voltage"

## ADS831E/2K5G4
designator U?
8-Bit, 80 MSPS ADC Single-Ended / Differential Input, Internal / External Reference and Programmble Input Range, -40 to 85 degC, 20-pin SOP (DBQ20), Green (RoHS & no Sb/Br); Manufacturer: Texas Instruments; PartNumber: ADS831E/2K5G4; # Input Channels: 1; Analog Voltage AV/DD(Max)(V): 5.25; Analog Voltage AV/DD(Min)(V): 4.75; Architecture: Pipeline; Digital Supply(Max)(V): 5; Digital Supply(Min)(V): 3; ENOB(Bits): 7.8; INL(Max)(+/-LSB): 2; Interface: Parallel CMOS; Resolution(Bits): 8; Sample Rate (max)(SPS): 80M; SFDR(dB): 67; SINAD(dB): 48.5; SNR(dB): 49; SubFamily: High Speed ADC (>10MSPS); DatasheetVersion: SBAS087A; PackageVersion: 4073301-3/H, 10/2008; PackageReference: DBQ20; PackageDescription: 20-Pin Plastic Small Outline, Body 8.65 x 3.9 mm, Pitch 0.635 mm; Supplier 1: Digi-Key; Supplier Part Number 1: TLV2541CDGKRG4-ND; Eco-Plan: Green (RoHS & no Sb/Br); Mounting Technology: Surface Mount; Code_JEDEC: MO-137; ComponentLink1Description: Manufacturer URL; ComponentLink1URL: http://www.ti.com/; ComponentLink2Description: Datasheet; ComponentLink2URL: http://www.ti.com/general/docs/lit/getliterature.tsp?genericPartNumber=ADS831&fileType=pdf; ComponentLink3Description: Package Specification; ComponentLink3URL: http://www.ti.com/litv/pdf/mpds210a
footprint TI-DBQ20_N (SOP, 20-Leads, Body 8.65x3.9mm, Pitch 0.635mm, IPC Medium Density)
footprint TI-DBQ20_L (SOP, 20-Leads, Body 8.65x3.9mm, Pitch 0.635mm, IPC High Density)
footprint TI-DBQ20_M (SOP, 20-Leads, Body 8.65x3.9mm, Pitch 0.635mm, IPC Low Density)
pins: 1 GND (power) "Ground", 2 BIT 1 (hiz) "Data Bit 1 (D7) (MSB)", 3 BIT 2 (hiz) "Data Bit 2 (D6)", 4 BIT 3 (hiz) "Data Bit 3 (D5)", 5 BIT 4 (hiz) "Data Bit 4 (D4)", 6 BIT 5 (hiz) "Data Bit 5 (D3)", 7 BIT 6 (hiz) "Data Bit 6 (D2)", 8 BIT 7 (hiz) "Data Bit 7 (D1)", 9 BIT 8 (hiz) "Data Bit 8 (D0) (LSB)", 10 CLK (in) "Convert Clock", 11 RSEL (in) "Input Range Select: HI = 2V; LO = 1V", 12 ~{INT}/EXT (in) "Reference Select: HI = External; LO = Internal", 13 REFB (in) "Bottom Reference", 14 REFT (in) "Top Reference", 15 CM (out) "Common-Mode Voltage Output", 16 ~{IN} (in) "Complementary Input", 17 IN (in) "Analog Input", 18 GND (power) "Ground", 19 VS+ (power) "+5V Supply", 20 VDRV (power) "Output Logic Driver Supply Voltage"

## ADS831EG4
designator U?
8-Bit, 80 MSPS ADC Single-Ended / Differential Input, Internal / External Reference and Programmble Input Range, -40 to 85 degC, 20-pin SOP (DBQ20), Green (RoHS & no Sb/Br); Manufacturer: Texas Instruments; PartNumber: ADS831EG4; # Input Channels: 1; Analog Voltage AV/DD(Max)(V): 5.25; Analog Voltage AV/DD(Min)(V): 4.75; Architecture: Pipeline; Digital Supply(Max)(V): 5; Digital Supply(Min)(V): 3; ENOB(Bits): 7.8; INL(Max)(+/-LSB): 2; Interface: Parallel CMOS; Resolution(Bits): 8; Sample Rate (max)(SPS): 80M; SFDR(dB): 67; SINAD(dB): 48.5; SNR(dB): 49; SubFamily: High Speed ADC (>10MSPS); DatasheetVersion: SBAS087A; PackageVersion: 4073301-3/H, 10/2008; PackageReference: DBQ20; PackageDescription: 20-Pin Plastic Small Outline, Body 8.65 x 3.9 mm, Pitch 0.635 mm; Supplier 1: Digi-Key; Supplier Part Number 1: 296-2973-5-ND; Eco-Plan: Green (RoHS & no Sb/Br); Mounting Technology: Surface Mount; Code_JEDEC: MO-137; ComponentLink1Description: Manufacturer URL; ComponentLink1URL: http://www.ti.com/; ComponentLink2Description: Datasheet; ComponentLink2URL: http://www.ti.com/general/docs/lit/getliterature.tsp?genericPartNumber=ADS831&fileType=pdf; ComponentLink3Description: Package Specification; ComponentLink3URL: http://www.ti.com/litv/pdf/mpds210a
footprint TI-DBQ20_N (SOP, 20-Leads, Body 8.65x3.9mm, Pitch 0.635mm, IPC Medium Density)
footprint TI-DBQ20_L (SOP, 20-Leads, Body 8.65x3.9mm, Pitch 0.635mm, IPC High Density)
footprint TI-DBQ20_M (SOP, 20-Leads, Body 8.65x3.9mm, Pitch 0.635mm, IPC Low Density)
pins: 1 GND (power) "Ground", 2 BIT 1 (hiz) "Data Bit 1 (D7) (MSB)", 3 BIT 2 (hiz) "Data Bit 2 (D6)", 4 BIT 3 (hiz) "Data Bit 3 (D5)", 5 BIT 4 (hiz) "Data Bit 4 (D4)", 6 BIT 5 (hiz) "Data Bit 5 (D3)", 7 BIT 6 (hiz) "Data Bit 6 (D2)", 8 BIT 7 (hiz) "Data Bit 7 (D1)", 9 BIT 8 (hiz) "Data Bit 8 (D0) (LSB)", 10 CLK (in) "Convert Clock", 11 RSEL (in) "Input Range Select: HI = 2V; LO = 1V", 12 ~{INT}/EXT (in) "Reference Select: HI = External; LO = Internal", 13 REFB (in) "Bottom Reference", 14 REFT (in) "Top Reference", 15 CM (out) "Common-Mode Voltage Output", 16 ~{IN} (in) "Complementary Input", 17 IN (in) "Analog Input", 18 GND (power) "Ground", 19 VS+ (power) "+5V Supply", 20 VDRV (power) "Output Logic Driver Supply Voltage"

## ADS850Y/2K
designator U?
14-Bit, 10 MSPS ADC Single-Ended / Differential Input, Internal / External Reference, Self Calibrating, -40 to 85 degC, 48-pin QFP (PFB48), Green (RoHS & no Sb/Br); Manufacturer: Texas Instruments; PartNumber: ADS850Y/2K; # Input Channels: 1; Analog Voltage AV/DD(Max)(V): 5.3; Analog Voltage AV/DD(Min)(V): 4.7; Architecture: Pipeline; Digital Supply(Min)(V): 2.7; ENOB(Bits): 12.2; INL(Max)(+/-LSB): 5; Interface: Parallel CMOS; Resolution(Bits): 14; Sample Rate (max)(SPS): 10M; SFDR(dB): 85; SINAD(dB): 75; SNR(dB): 76; SubFamily: Precision ADC (<=10MSPS); DatasheetVersion: SBAS154C; PackageVersion: 4073176/B, 10/1996; PackageReference: PFB48; PackageDescription: 48-Pin Plastic Flat Pack, Body 7 x 7 mm, Pitch 0.5 mm; Supplier 1: Digi-Key; Supplier Part Number 1: TLV2541IDGKG4-ND; Digital Supply(Max)(V): 5.3; Eco-Plan: Green (RoHS & no Sb/Br); Mounting Technology: Surface Mount; Code_JEDEC: MS-026; ComponentLink1Description: Manufacturer URL; ComponentLink1URL: http://www.ti.com/; ComponentLink2Description: Datasheet; ComponentLink2URL: http://www.ti.com/general/docs/lit/getliterature.tsp?genericPartNumber=ADS850&fileType=pdf; ComponentLink3Description: Package Specification; ComponentLink3URL: http://www.ti.com/lit/ml/mtqf019a/mtqf019a.pdf
footprint TI-PFB48_N (QFP, 48-Leads, Body 7x7mm, Pitch 0.5mm, IPC Medium Density)
footprint TI-PFB48_L (QFP, 48-Leads, Body 7x7mm, Pitch 0.5mm, IPC High Density)
footprint TI-PFB48_M (QFP, 48-Leads, Body 7x7mm, Pitch 0.5mm, IPC Low Density)
part A pins: 6 CLK (in) "Convert Clock Input", 7 NC "No Connection", 8 MEM_RST (in) "Memory Reset. When pulsed HIGH, resets memory to zero. Not intended as a function pin, so should be permanently tied to ground.", 9 CAL (in) "When Pulsed High, puts ADC into Calibration Mode (2 clock cycles).", 10 OVR (out) "Over Range Indicator", 11 CAL_BUSY (in) "Indicates in Calibration Mode.", 12 B1 (MSB) (hiz) "Data Bit 1 (D13) (MSB)", 13 B2 (hiz) "Data Bit 2 (D12)", 14 B3 (hiz) "Data Bit 3 (D11)", 15 B4 (hiz) "Data Bit 4 (D10)", 16 B5 (hiz) "Data Bit 5 (D9)", 17 B6 (hiz) "Data Bit 6 (D8)", 18 B7 (hiz) "Data Bit 7 (D7)", 19 B8 (hiz) "Data Bit 8 (D6)", 20 B9 (hiz) "Data Bit 9 (D5)", 21 B10 (hiz) "Data Bit 10 (D4)", 22 B11 (hiz) "Data Bit 11 (D3)", 23 B12 (hiz) "Data Bit 12 (D2)", 24 B13 (hiz) "Data Bit 13 (D1)", 25 B14 (LSB) (hiz) "Data Bit 14 (D0) (LSB)", 28 ~{OE} (in) "Output Enable: HI = High Impedance; LO = Normal Operation (50kohm Internal Pull-Down Resistor)", 29 PD (in) "Power Down: HI = Power Down; LO = Normal Operation (50kohm Internal Pull-Down Resistor)", 30 BTC (in) "HI = Binary Two¡¯s Complement (BTC); LO = Straight Offset Binary (SOB)", 33 SEL (in) "Input Range Select", 34 VREF (in) "Reference Voltage Select", 37 CBP2 "Calibration Reference Bypass 2 (0.1uF ceramic capacitor recommended for decoupling.)", 39 REFB "Bottom Reference Voltage Bypass", 40 CM (out) "Common-Mode Voltage (mid-scale). Not intended for driving a load", 41 REFT "Top Reference Voltage Bypass", 43 CBP1 "Calibration Reference Bypass 1 (0.1uF ceramic capacitor recommended for decoupling.)", 45 ~{IN} (in) "Complementary Analog Input (-)", 47 IN (in) "Analog Input (+)"
part B pins: 1 VS+ (power) "+5V Supply", 2 VS+ (power) "+5V Supply", 3 VS+ (power) "+5V Supply", 4 VS+ (power) "+5V Supply", 5 GND (power) "Ground", 26 VDRV (power) "Output Driver Voltage", 27 GND (power) "Ground", 31 GND (power) "Ground", 32 GND (power) "Ground", 35 GND (power) "Ground", 36 VS+ (power) "+5V Supply", 38 GND (power) "Ground", 42 GND (power) "Ground", 44 GND (power) "Ground", 46 GND (power) "Ground", 48 GND (power) "Ground"

## ADS850Y/250
designator U?
14-Bit, 10 MSPS ADC Single-Ended / Differential Input, Internal / External Reference, Self Calibrating, -40 to 85 degC, 48-pin QFP (PFB48), Green (RoHS & no Sb/Br); Manufacturer: Texas Instruments; PartNumber: ADS850Y/250; # Input Channels: 1; Analog Voltage AV/DD(Max)(V): 5.3; Analog Voltage AV/DD(Min)(V): 4.7; Architecture: Pipeline; Digital Supply(Min)(V): 2.7; ENOB(Bits): 12.2; INL(Max)(+/-LSB): 5; Interface: Parallel CMOS; Resolution(Bits): 14; Sample Rate (max)(SPS): 10M; SFDR(dB): 85; SINAD(dB): 75; SNR(dB): 76; SubFamily: Precision ADC (<=10MSPS); DatasheetVersion: SBAS154C; PackageVersion: 4073176/B, 10/1996; PackageReference: PFB48; PackageDescription: 48-Pin Plastic Flat Pack, Body 7 x 7 mm, Pitch 0.5 mm; Supplier 1: Digi-Key; Supplier Part Number 1: TLV2541IDGKR-ND; Digital Supply(Max)(V): 5.3; Eco-Plan: Green (RoHS & no Sb/Br); Mounting Technology: Surface Mount; Code_JEDEC: MS-026; ComponentLink1Description: Manufacturer URL; ComponentLink1URL: http://www.ti.com/; ComponentLink2Description: Datasheet; ComponentLink2URL: http://www.ti.com/general/docs/lit/getliterature.tsp?genericPartNumber=ADS850&fileType=pdf; ComponentLink3Description: Package Specification; ComponentLink3URL: http://www.ti.com/lit/ml/mtqf019a/mtqf019a.pdf
footprint TI-PFB48_N (QFP, 48-Leads, Body 7x7mm, Pitch 0.5mm, IPC Medium Density)
footprint TI-PFB48_L (QFP, 48-Leads, Body 7x7mm, Pitch 0.5mm, IPC High Density)
footprint TI-PFB48_M (QFP, 48-Leads, Body 7x7mm, Pitch 0.5mm, IPC Low Density)
part A pins: 6 CLK (in) "Convert Clock Input", 7 NC "No Connection", 8 MEM_RST (in) "Memory Reset. When pulsed HIGH, resets memory to zero. Not intended as a function pin, so should be permanently tied to ground.", 9 CAL (in) "When Pulsed High, puts ADC into Calibration Mode (2 clock cycles).", 10 OVR (out) "Over Range Indicator", 11 CAL_BUSY (in) "Indicates in Calibration Mode.", 12 B1 (MSB) (hiz) "Data Bit 1 (D13) (MSB)", 13 B2 (hiz) "Data Bit 2 (D12)", 14 B3 (hiz) "Data Bit 3 (D11)", 15 B4 (hiz) "Data Bit 4 (D10)", 16 B5 (hiz) "Data Bit 5 (D9)", 17 B6 (hiz) "Data Bit 6 (D8)", 18 B7 (hiz) "Data Bit 7 (D7)", 19 B8 (hiz) "Data Bit 8 (D6)", 20 B9 (hiz) "Data Bit 9 (D5)", 21 B10 (hiz) "Data Bit 10 (D4)", 22 B11 (hiz) "Data Bit 11 (D3)", 23 B12 (hiz) "Data Bit 12 (D2)", 24 B13 (hiz) "Data Bit 13 (D1)", 25 B14 (LSB) (hiz) "Data Bit 14 (D0) (LSB)", 28 ~{OE} (in) "Output Enable: HI = High Impedance; LO = Normal Operation (50kohm Internal Pull-Down Resistor)", 29 PD (in) "Power Down: HI = Power Down; LO = Normal Operation (50kohm Internal Pull-Down Resistor)", 30 BTC (in) "HI = Binary Two¡¯s Complement (BTC); LO = Straight Offset Binary (SOB)", 33 SEL (in) "Input Range Select", 34 VREF (in) "Reference Voltage Select", 37 CBP2 "Calibration Reference Bypass 2 (0.1uF ceramic capacitor recommended for decoupling.)", 39 REFB "Bottom Reference Voltage Bypass", 40 CM (out) "Common-Mode Voltage (mid-scale). Not intended for driving a load", 41 REFT "Top Reference Voltage Bypass", 43 CBP1 "Calibration Reference Bypass 1 (0.1uF ceramic capacitor recommended for decoupling.)", 45 ~{IN} (in) "Complementary Analog Input (-)", 47 IN (in) "Analog Input (+)"
part B pins: 1 VS+ (power) "+5V Supply", 2 VS+ (power) "+5V Supply", 3 VS+ (power) "+5V Supply", 4 VS+ (power) "+5V Supply", 5 GND (power) "Ground", 26 VDRV (power) "Output Driver Voltage", 27 GND (power) "Ground", 31 GND (power) "Ground", 32 GND (power) "Ground", 35 GND (power) "Ground", 36 VS+ (power) "+5V Supply", 38 GND (power) "Ground", 42 GND (power) "Ground", 44 GND (power) "Ground", 46 GND (power) "Ground", 48 GND (power) "Ground"

## ADS850Y/250G4
designator U?
14-Bit, 10 MSPS ADC Single-Ended / Differential Input, Internal / External Reference, Self Calibrating, -40 to 85 degC, 48-pin QFP (PFB48), Green (RoHS & no Sb/Br); Manufacturer: Texas Instruments; PartNumber: ADS850Y/250G4; # Input Channels: 1; Analog Voltage AV/DD(Max)(V): 5.3; Analog Voltage AV/DD(Min)(V): 4.7; Architecture: Pipeline; Digital Supply(Min)(V): 2.7; ENOB(Bits): 12.2; INL(Max)(+/-LSB): 5; Interface: Parallel CMOS; Resolution(Bits): 14; Sample Rate (max)(SPS): 10M; SFDR(dB): 85; SINAD(dB): 75; SNR(dB): 76; SubFamily: Precision ADC (<=10MSPS); DatasheetVersion: SBAS154C; PackageVersion: 4073176/B, 10/1996; PackageReference: PFB48; PackageDescription: 48-Pin Plastic Flat Pack, Body 7 x 7 mm, Pitch 0.5 mm; Supplier 1: Digi-Key; Supplier Part Number 1: TLV2541IDGKRG4-ND; Digital Supply(Max)(V): 5.3; Eco-Plan: Green (RoHS & no Sb/Br); Mounting Technology: Surface Mount; Code_JEDEC: MS-026; ComponentLink1Description: Manufacturer URL; ComponentLink1URL: http://www.ti.com/; ComponentLink2Description: Datasheet; ComponentLink2URL: http://www.ti.com/general/docs/lit/getliterature.tsp?genericPartNumber=ADS850&fileType=pdf; ComponentLink3Description: Package Specification; ComponentLink3URL: http://www.ti.com/lit/ml/mtqf019a/mtqf019a.pdf
footprint TI-PFB48_N (QFP, 48-Leads, Body 7x7mm, Pitch 0.5mm, IPC Medium Density)
footprint TI-PFB48_L (QFP, 48-Leads, Body 7x7mm, Pitch 0.5mm, IPC High Density)
footprint TI-PFB48_M (QFP, 48-Leads, Body 7x7mm, Pitch 0.5mm, IPC Low Density)
part A pins: 6 CLK (in) "Convert Clock Input", 7 NC "No Connection", 8 MEM_RST (in) "Memory Reset. When pulsed HIGH, resets memory to zero. Not intended as a function pin, so should be permanently tied to ground.", 9 CAL (in) "When Pulsed High, puts ADC into Calibration Mode (2 clock cycles).", 10 OVR (out) "Over Range Indicator", 11 CAL_BUSY (in) "Indicates in Calibration Mode.", 12 B1 (MSB) (hiz) "Data Bit 1 (D13) (MSB)", 13 B2 (hiz) "Data Bit 2 (D12)", 14 B3 (hiz) "Data Bit 3 (D11)", 15 B4 (hiz) "Data Bit 4 (D10)", 16 B5 (hiz) "Data Bit 5 (D9)", 17 B6 (hiz) "Data Bit 6 (D8)", 18 B7 (hiz) "Data Bit 7 (D7)", 19 B8 (hiz) "Data Bit 8 (D6)", 20 B9 (hiz) "Data Bit 9 (D5)", 21 B10 (hiz) "Data Bit 10 (D4)", 22 B11 (hiz) "Data Bit 11 (D3)", 23 B12 (hiz) "Data Bit 12 (D2)", 24 B13 (hiz) "Data Bit 13 (D1)", 25 B14 (LSB) (hiz) "Data Bit 14 (D0) (LSB)", 28 ~{OE} (in) "Output Enable: HI = High Impedance; LO = Normal Operation (50kohm Internal Pull-Down Resistor)", 29 PD (in) "Power Down: HI = Power Down; LO = Normal Operation (50kohm Internal Pull-Down Resistor)", 30 BTC (in) "HI = Binary Two¡¯s Complement (BTC); LO = Straight Offset Binary (SOB)", 33 SEL (in) "Input Range Select", 34 VREF (in) "Reference Voltage Select", 37 CBP2 "Calibration Reference Bypass 2 (0.1uF ceramic capacitor recommended for decoupling.)", 39 REFB "Bottom Reference Voltage Bypass", 40 CM (out) "Common-Mode Voltage (mid-scale). Not intended for driving a load", 41 REFT "Top Reference Voltage Bypass", 43 CBP1 "Calibration Reference Bypass 1 (0.1uF ceramic capacitor recommended for decoupling.)", 45 ~{IN} (in) "Complementary Analog Input (-)", 47 IN (in) "Analog Input (+)"
part B pins: 1 VS+ (power) "+5V Supply", 2 VS+ (power) "+5V Supply", 3 VS+ (power) "+5V Supply", 4 VS+ (power) "+5V Supply", 5 GND (power) "Ground", 26 VDRV (power) "Output Driver Voltage", 27 GND (power) "Ground", 31 GND (power) "Ground", 32 GND (power) "Ground", 35 GND (power) "Ground", 36 VS+ (power) "+5V Supply", 38 GND (power) "Ground", 42 GND (power) "Ground", 44 GND (power) "Ground", 46 GND (power) "Ground", 48 GND (power) "Ground"